# Altium footprint library DANCE_LIB_REV2.PcbLib: 146 footprints (part 9 of 10)
Each footprint in its own frame and in the unit in brackets; x right, y up, seen from the top. Pads: shape width x height; smd on the part's side, far side on the other; paste and mask are expansions set on the pad; w line width, h text height; cw(c..) or ccw(c..) is an arc to the next point about the centre after c.
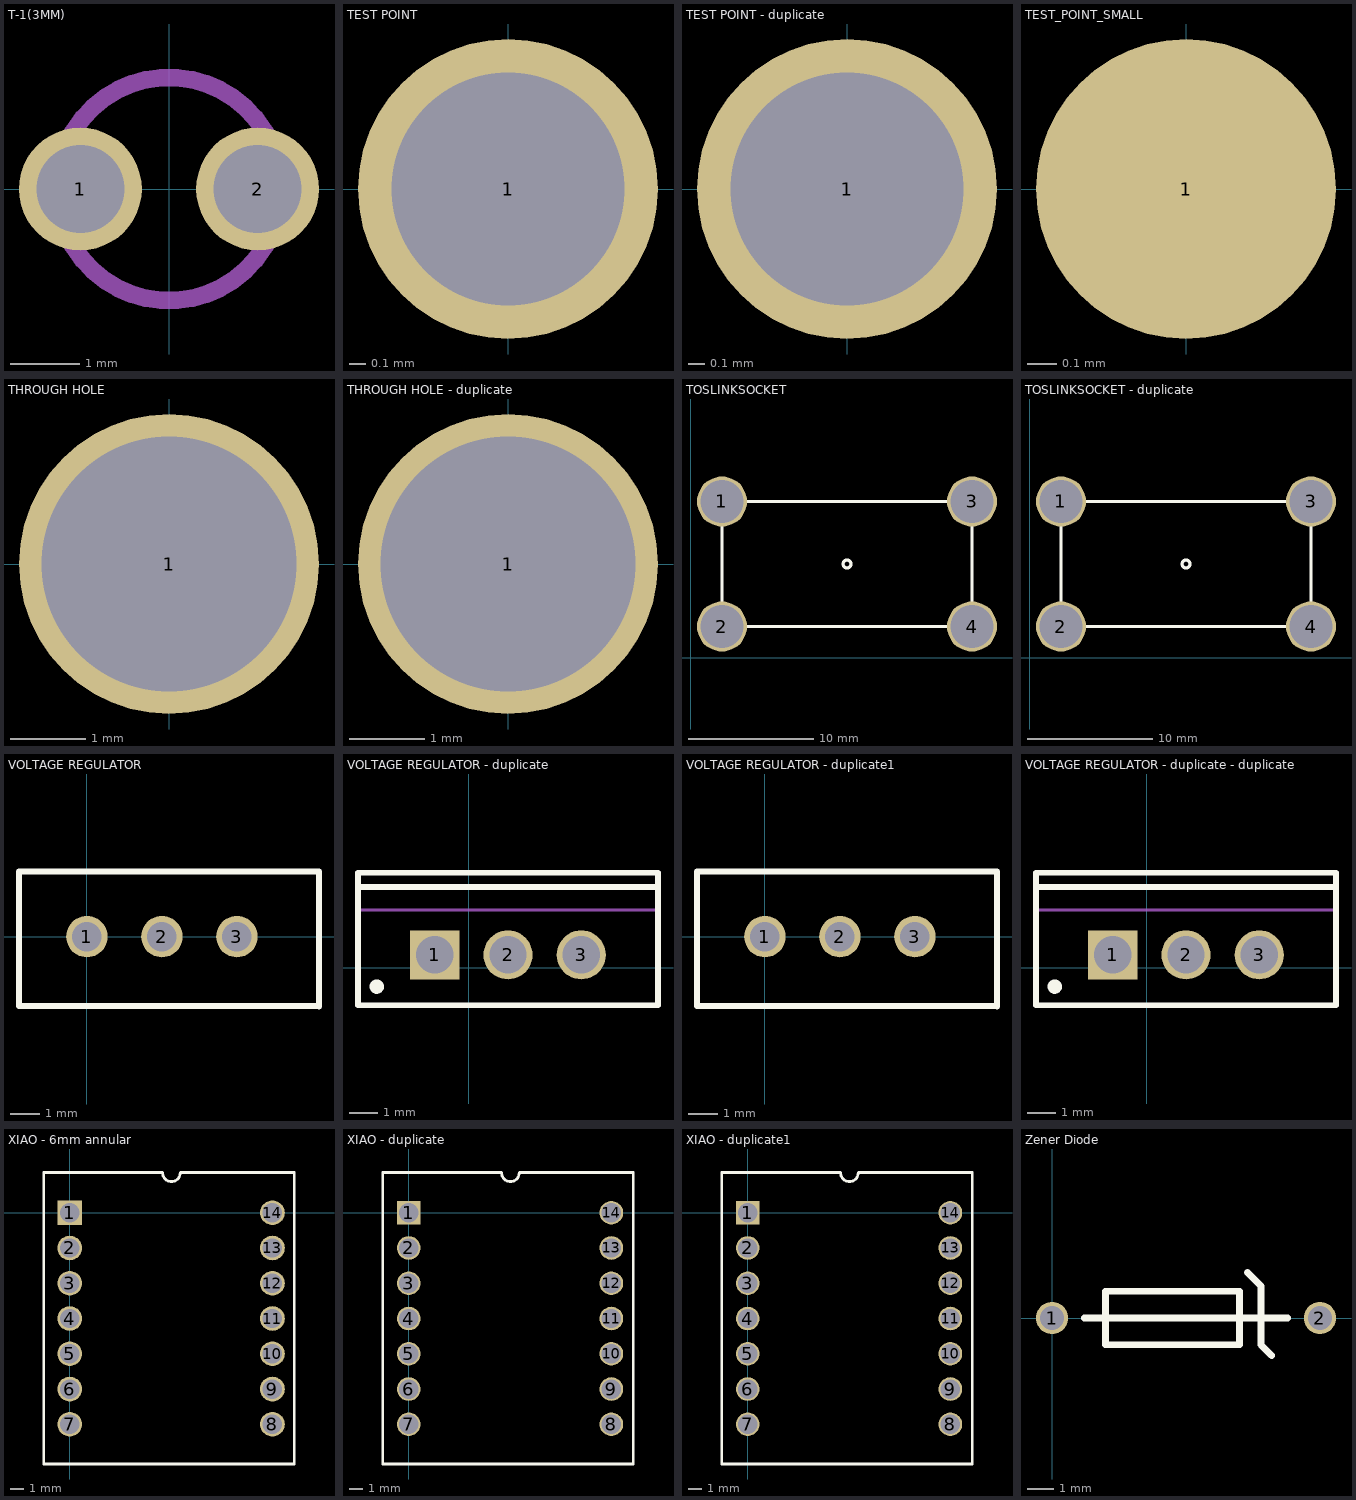
[diagram p8: the footprints below, top view; thin cyan lines are the x and y axes]

## T-1(3MM) [mm]
pads (2):
  round 1.76 hole 1.26: 1(-1.27,0) 2(1.27,0)
Mechanical 13:
  circle w0.254: c0,0 r1.6
3D body "L-7104SRC-J4.stp": height 9.05, standoff -22.55, extent -1.62,-1.45 1.62,1.45

## TEST POINT [mm]
pads (1):
  round 1.8 hole 1.4: 1(0,0)

## TEST POINT - duplicate [mm]
pads (1):
  round 1.8 hole 1.4: 1(0,0)

## TEST_POINT_SMALL [mil]
pads (1):
  round 40 smd mask+0: 1(0,0)

## THROUGH HOLE [mm]
pads (1):
  round 4 hole 3.4: 1(0,0)

## THROUGH HOLE - duplicate [mm]
pads (1):
  round 4 hole 3.4: 1(0,0)

## TOSLINKSOCKET [mm]
pads (4):
  round 4 hole 3.4: 1(2.5,12.5) 2(2.5,2.5) 3(22.5,12.5) 4(22.5,2.5)
Top Overlay:
  circle w0.254: c12.5,7.5 r0.316
  lines w0.254: 2.5,2.5 2.5,12.5 22.5,12.5 22.5,2.5 2.5,2.5

## TOSLINKSOCKET - duplicate [mm]
pads (4):
  round 4 hole 3.4: 1(2.5,12.5) 2(2.5,2.5) 3(22.5,12.5) 4(22.5,2.5)
Top Overlay:
  circle w0.254: c12.5,7.5 r0.316
  lines w0.254: 2.5,2.5 2.5,12.5 22.5,12.5 22.5,2.5 2.5,2.5

## VOLTAGE REGULATOR [mm]
pads (3):
  round 1.4 hole 1: 1(0,0) 2(2.54,0) 3(5.08,0)
Top Overlay:
  lines w0.2: 7.85,-2.35 -2.3,-2.35 -2.3,2.2 7.86,2.2 ; 7.86,-2.36 7.86,2.19

## VOLTAGE REGULATOR - duplicate [mm]
pads (3):
  rect 1.7x1.7 hole 1.3: 1(-1.181,0.452)
  round 1.7 hole 1.3: 2(1.359,0.452) 3(3.899,0.452)
Top Overlay:
  circle w0.25: c-3.191,-0.648 r0.125
  lines w0.2: -3.841,2.802 6.559,2.802 ; -3.841,-1.298 6.559,-1.298 6.559,3.302 -3.841,3.302 -3.841,-1.298
Mechanical 13:
  lines w0.1: -3.841,2.002 6.559,2.002 ; -3.841,-1.298 -3.841,3.302 6.559,3.302 6.559,-1.298 -3.841,-1.298
Mechanical 15:
  lines w0.1: 0.859,0.452 1.859,0.452 ; 1.359,-0.048 1.359,0.952
3D body: height 13.05, standoff 3.5, extent -3.891,-1.348 6.609,3.352
3D body: height 19.7, standoff 13.05, extent -3.84,2.003 6.558,3.301

## VOLTAGE REGULATOR - duplicate1 [mm]
pads (3):
  round 1.4 hole 1: 1(0,0) 2(2.54,0) 3(5.08,0)
Top Overlay:
  lines w0.2: 7.85,-2.35 -2.3,-2.35 -2.3,2.2 7.86,2.2 ; 7.86,-2.36 7.86,2.19

## VOLTAGE REGULATOR - duplicate - duplicate [mm]
pads (3):
  rect 1.7x1.7 hole 1.3: 1(-1.181,0.452)
  round 1.7 hole 1.3: 2(1.359,0.452) 3(3.899,0.452)
Top Overlay:
  circle w0.25: c-3.191,-0.648 r0.125
  lines w0.2: -3.841,2.802 6.559,2.802 ; -3.841,-1.298 6.559,-1.298 6.559,3.302 -3.841,3.302 -3.841,-1.298
Mechanical 13:
  lines w0.1: -3.841,2.002 6.559,2.002 ; -3.841,-1.298 -3.841,3.302 6.559,3.302 6.559,-1.298 -3.841,-1.298
Mechanical 15:
  lines w0.1: 0.859,0.452 1.859,0.452 ; 1.359,-0.048 1.359,0.952
3D body: height 13.05, standoff 3.5, extent -3.891,-1.348 6.609,3.352
3D body: height 19.7, standoff 13.05, extent -3.84,2.003 6.558,3.301

## XIAO - 6mm annular [mil]
pads (14):
  rect 70x70 hole 55.12: 1(0,0)
  round 70 hole 55.12: 2(0,-100) 3(0,-200) 4(0,-300) 5(0,-400) 6(0,-500) 7(0,-600) 8(574.8,-600) 9(574.8,-500) 10(574.8,-400) 11(574.8,-300) 12(574.8,-200) 13(574.8,-100) 14(574.8,0)
Top Overlay:
  lines w7.87: -73.82,114.17 -73.82,-712.6 636.81,-712.6 636.81,113.98 313.98,113.98 ; -70.87,113.98 262.8,113.98 ; 263.39,113.19 ccw(c288.39,113.19) 313.39,113.19

## XIAO - duplicate [mm]
pads (14):
  rect 1.7x1.7 hole 1.4: 1(0,0)
  round 1.7 hole 1.4: 2(0,-2.54) 3(0,-5.08) 4(0,-7.62) 5(0,-10.16) 6(0,-12.7) 7(0,-15.24) 8(14.6,-15.24) 9(14.6,-12.7) 10(14.6,-10.16) 11(14.6,-7.62) 12(14.6,-5.08) 13(14.6,-2.54) 14(14.6,0)
Top Overlay:
  lines w0.2: -1.875,2.9 -1.875,-18.1 16.175,-18.1 16.175,2.895 7.975,2.895 ; -1.8,2.895 6.675,2.895 ; 6.69,2.875 ccw(c7.325,2.875) 7.96,2.875

## XIAO - duplicate1 [mm]
pads (14):
  rect 1.7x1.7 hole 1.4: 1(0,0)
  round 1.7 hole 1.4: 2(0,-2.54) 3(0,-5.08) 4(0,-7.62) 5(0,-10.16) 6(0,-12.7) 7(0,-15.24) 8(14.6,-15.24) 9(14.6,-12.7) 10(14.6,-10.16) 11(14.6,-7.62) 12(14.6,-5.08) 13(14.6,-2.54) 14(14.6,0)
Top Overlay:
  lines w0.2: -1.875,2.9 -1.875,-18.1 16.175,-18.1 16.175,2.895 7.975,2.895 ; -1.8,2.895 6.675,2.895 ; 6.69,2.875 ccw(c7.325,2.875) 7.96,2.875

## Zener Diode [mm]
pads (2):
  round 1.2 hole 0.9: 1(0,0) 2(10,0)
Top Overlay:
  lines w0.254: 1.2,0 8.8,0 ; 7.3,1.7 7.8,1.2 7.8,1.1 7.8,-1 8.2,-1.4 ; 2,-1 7,-1 7,1 2,1 2,-1